# EAGLE library part PIC16F690* (library CJ_Libz)
MICROCONTROLLER PIC16F690 18 I/O One 16-bit timer Two 8-bit timer Two comparators Precision internal oscillator-software selectable 8 MHz - 32 KHz SSP w/ I2C Compatible Address mask option EUSART LIN 2.0 Compatible ECCP+ w/ PWM Steering 12 A/D Channels ULPW Enhanced Low Power Timer 1 Timer 1 Gate Synch Latch 4k Program Flash memory 256 bytes SRAM 256 bytes EEPROM
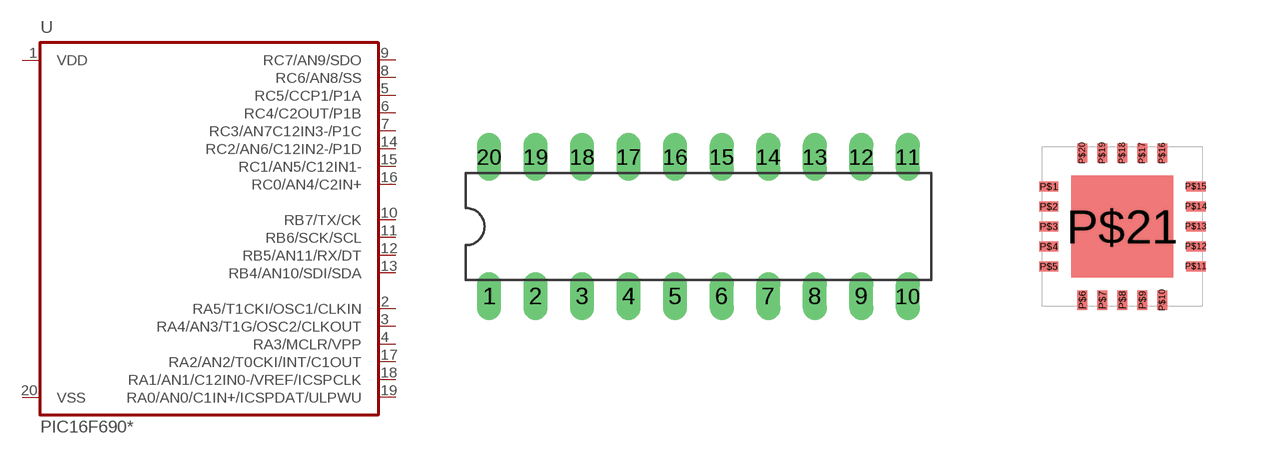
[diagram p2: symbol with the pads of DIL20; footprints DIL20, 16F690-QFN20]

Designator prefix -

## PIC16F690IP  [DIL20]
1  VDD  pwr
2  RA5/T1CKI/OSC1/CLKIN
3  RA4/AN3/T1G/OSC2/CLKOUT
4  RA3/MCLR/VPP
5  RC5/CCP1/P1A
6  RC4/C2OUT/P1B
7  RC3/AN7C12IN3-/P1C
8  RC6/AN8/SS
9  RC7/AN9/SDO
10  RB7/TX/CK
11  RB6/SCK/SCL
12  RB5/AN11/RX/DT
13  RB4/AN10/SDI/SDA
14  RC2/AN6/C12IN2-/P1D
15  RC1/AN5/C12IN1-
16  RC0/AN4/C2IN+
17  RA2/AN2/T0CKI/INT/C1OUT
18  RA1/AN1/C12IN0-/VREF/ICSPCLK
19  RA0/AN0/C1IN+/ICSPDAT/ULPWU
20  VSS  pwr

## PIC16F690QFN16F690-CJ  [16F690-QFN20]
P$1  RA3/MCLR/VPP
P$2  RC5/CCP1/P1A
P$3  RC4/C2OUT/P1B
P$4  RC3/AN7C12IN3-/P1C
P$5  RC6/AN8/SS
P$6  RC7/AN9/SDO
P$7  RB7/TX/CK
P$8  RB6/SCK/SCL
P$9  RB5/AN11/RX/DT
P$10  RB4/AN10/SDI/SDA
P$11  RC2/AN6/C12IN2-/P1D
P$12  RC1/AN5/C12IN1-
P$13  RC0/AN4/C2IN+
P$14  RA2/AN2/T0CKI/INT/C1OUT
P$15  RA1/AN1/C12IN0-/VREF/ICSPCLK
P$16  RA0/AN0/C1IN+/ICSPDAT/ULPWU
P$17  VSS  pwr
P$18  VDD  pwr
P$19  RA5/T1CKI/OSC1/CLKIN
P$20  RA4/AN3/T1G/OSC2/CLKOUT

## Footprint DIL20 (pad centres in mm)
drill 0.813 long: 1 -11.43,-3.81; 2 -8.89,-3.81; 3 -6.35,-3.81; 4 -3.81,-3.81; 5 -1.27,-3.81; 6 1.27,-3.81; 7 3.81,-3.81; 8 6.35,-3.81; 9 8.89,-3.81; 10 11.43,-3.81; 11 11.43,3.81; 12 8.89,3.81; 13 6.35,3.81; 14 3.81,3.81; 15 1.27,3.81; 16 -1.27,3.81; 17 -3.81,3.81; 18 -6.35,3.81; 19 -8.89,3.81; 20 -11.43,3.81

## Footprint 16F690-QFN20 (pad centres in mm)
smd 0.483 x 0.25: P$1 -1.85,0.96; P$2 -1.85,0.46; P$3 -1.85,-0.04; P$4 -1.85,-0.54; P$5 -1.85,-1.04; P$11 1.83,-1.04; P$12 1.83,-0.54; P$13 1.83,-0.04; P$14 1.83,0.46; P$15 1.83,0.96
smd 0.25 x 0.483: P$6 -1.01,-1.88; P$7 -0.51,-1.88; P$8 -0.01,-1.88; P$9 0.49,-1.88; P$10 0.99,-1.88; P$16 0.99,1.8; P$17 0.49,1.8; P$18 -0.01,1.8; P$19 -0.51,1.8; P$20 -1.01,1.8
smd 2.55 x 2.55: P$21 -0.01,-0.04